# Altium footprint library Morethanall Footprints.PcbLib: 1 footprints
Each footprint in its own frame and in the unit in brackets; x right, y up, seen from the top. Pads: shape width x height; smd on the part's side, far side on the other; paste and mask are expansions set on the pad; w line width, h text height; cw(c..) or ccw(c..) is an arc to the next point about the centre after c.
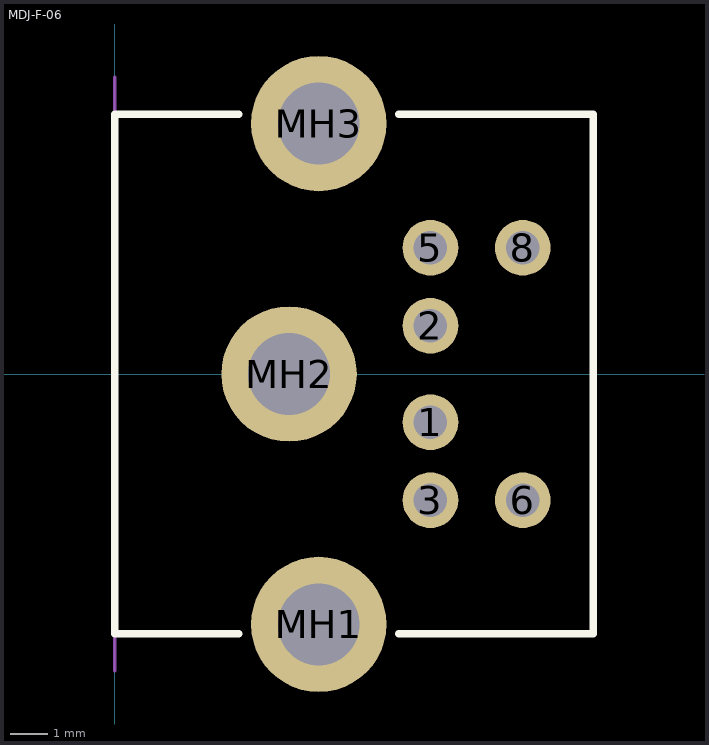
[diagram p0: the footprint, top view; thin cyan lines are the x and y axes]

## MDJ-F-06 [mm] "Connector; Circular DIN, Thru-Hole; 6 Position; Right Angle; Pitch 2.1/2.6 mm; Body 14 x 12.9 x 13 mm (WxTxH)"
height 13
pads (9):
  round 1.5 hole 0.9: 1(8.51,-1.3) 2(8.51,1.3) 3(8.51,-3.4) 5(8.51,3.4) 6(11,-3.4) 8(11,3.4)
  round 3.65 hole 2.2: MH1(5.5,-6.75) MH2(4.7,0) MH3(5.5,6.75)
Top Overlay:
  lines w0.2: 3.34,-7 0,-7 0,7 3.34,7 ; 7.66,-7 12.9,-7 12.9,7 7.66,7
Mechanical 1:
  lines w0.1: 0,-8 0,8
  text "PCB Edge" at 0.6,-6.7 h0.25